# EAGLE library part FH23-45S-0.3SHW(05) (library FH23-45S-0.3SHW(05))
HIROSE(HRS) - FH23-45S-0.3SHW(05) - CONNECTOR, FPC, RCPT, 45POS, 1ROW Source: Datasheet <https://www.hirose.com/product/en/download_file/key_name/FH23/category/Catalog/doc_file_id/49354/?file_category_id=4&item_id=297&is_series=1>
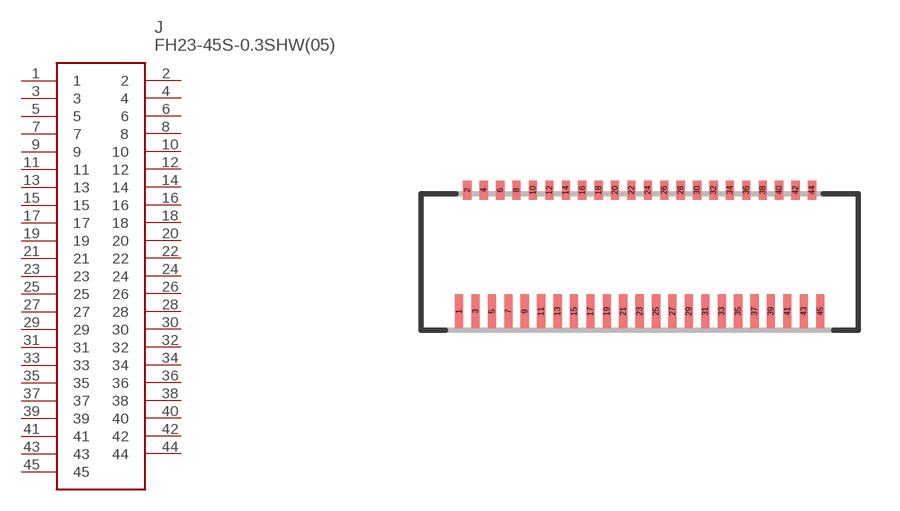
[diagram p0: symbol with the pads of FH23-45S-0.3SHW; footprint FH23-45S-0.3SHW]

Designator prefix J

## FH23-45S-0.3SHW(05) (Description: HIROSE(HRS) - FH23-45S-0.3SHW(05) - CONNECTOR, FPC, RCPT, 45POS, 1ROW; Height: mm; Manufacturer_Name: Hirose; Manufacturer_Part_Number: FH23-45S-0.3SHW(05); Mouser_Part_Number: 798-FH2345S0.3SHW05; Mouser_Price-Stock: https://www.mouser.com/Search/Refine.aspx?Keyword=798-FH2345S0.3SHW05)  [FH23-45S-0.3SHW]
1  1
2  2
3  3
4  4
5  5
6  6
7  7
8  8
9  9
10  10
11  11
12  12
13  13
14  14
15  15
16  16
17  17
18  18
19  19
20  20
21  21
22  22
23  23
24  24
25  25
26  26
27  27
28  28
29  29
30  30
31  31
32  32
33  33
34  34
35  35
36  36
37  37
38  38
39  39
40  40
41  41
42  42
43  43
44  44
45  45

## Footprint FH23-45S-0.3SHW (pad centres in mm)
FH23-45S-0.3SHW
smd 0.3 x 1.25: 1 -6.6,-2.212; 3 -6,-2.212; 5 -5.4,-2.212; 7 -4.8,-2.212; 9 -4.2,-2.212; 11 -3.6,-2.212; 13 -3,-2.212; 15 -2.4,-2.212; 17 -1.8,-2.212; 19 -1.2,-2.212; 21 -0.6,-2.212; 23 0,-2.212; 25 0.6,-2.212; 27 1.2,-2.212; 29 1.8,-2.212; 31 2.4,-2.212; 33 3,-2.212; 35 3.6,-2.212; 37 4.2,-2.212; 39 4.8,-2.212; 41 5.4,-2.212; 43 6,-2.212; 45 6.6,-2.212
smd 0.3 x 0.7: 2 -6.3,2.212; 4 -5.7,2.212; 6 -5.1,2.212; 8 -4.5,2.212; 10 -3.9,2.212; 12 -3.3,2.212; 14 -2.7,2.212; 16 -2.1,2.212; 18 -1.5,2.212; 20 -0.9,2.212; 22 -0.3,2.212; 24 0.3,2.212; 26 0.9,2.212; 28 1.5,2.212; 30 2.1,2.212; 32 2.7,2.212; 34 3.3,2.212; 36 3.9,2.212; 38 4.5,2.212; 40 5.1,2.212; 42 5.7,2.212; 44 6.3,2.212